# Altium footprint library Conn_Sullins_GRPB071VWVN-RC_eec_MFG.PcbLib: 1 footprints
Each footprint in its own frame and in the unit in brackets; x right, y up, seen from the top. Pads: shape width x height; smd on the part's side, far side on the other; paste and mask are expansions set on the pad; w line width, h text height; cw(c..) or ccw(c..) is an arc to the next point about the centre after c.
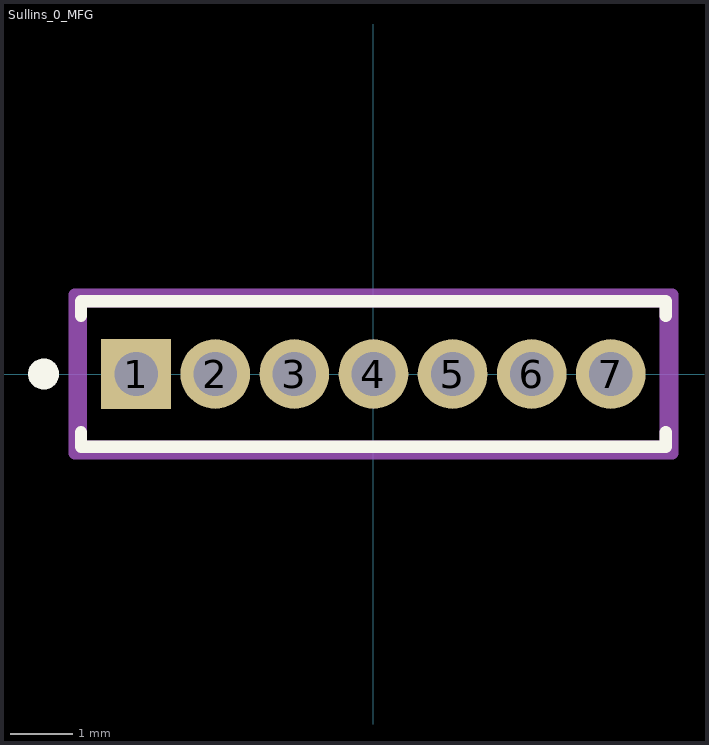
[diagram p0: the footprint, top view; thin cyan lines are the x and y axes]

## Sullins_0_MFG [mm]
pads (7):
  rect 1.12x1.12 hole 0.7 paste-1000 mask+0: 1(-3.81,0)
  round 1.12 hole 0.7 paste-1000 mask+0: 2(-2.54,0) 3(-1.27,0) 4(0,0) 5(1.27,0) 6(2.54,0) 7(3.81,0)
Top Overlay:
  circle w0.25: c-5.295,0 r0.125
  lines w0.2: -4.695,-0.935 -4.695,-1.17 4.695,-1.17 4.695,-0.935 ; -4.695,0.935 -4.695,1.17 4.695,1.17 4.695,0.935
Mechanical 10:
  lines w0.2: -4.795,-1.27 4.795,-1.27 4.795,1.27 -4.795,1.27 -4.795,-1.27
  text ".Designator" at 0,0.188 h1
Mechanical 12:
  lines w0.2: -4.695,-1.17 4.695,-1.17 4.695,1.17 -4.695,1.17 -4.695,-1.17
Mechanical 15:
  lines w0.1: -0.5,0 0.5,0 ; 0,-0.5 0,0.5
  lines w0.2: -4.795,-1.27 4.795,-1.27 4.795,1.27 -4.795,1.27 -4.795,-1.27
3D body "Conn_Sullins_GRPB071VWVN-RC_eec.STEP": height 0.25, standoff 0, extent -4.795,-1.27 4.795,1.27